# EAGLE library part TPS6024X (library pnc_probe)
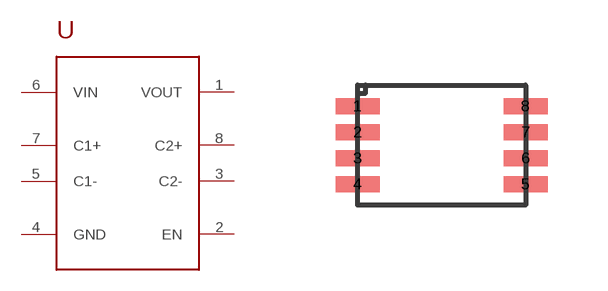
[diagram p1: symbol with the pads of VSSOP8; footprint VSSOP8]

Designator prefix -

## TPS6024X_VSSOP8  [VSSOP8]
1  VOUT
2  EN
3  C2-
4  GND
5  C1-
6  VIN
7  C1+
8  C2+

## Footprint VSSOP8 (pad centres in mm)
smd 1.1 x 0.4: 1 -2.1,0.975; 2 -2.1,0.325; 3 -2.1,-0.325; 4 -2.1,-0.975; 5 2.1,-0.975; 6 2.1,-0.325; 7 2.1,0.325; 8 2.1,0.975